# Altium integrated library sensie_v_0_0.IntLib: 42 symbols
Pins are listed as number, name and electrical type; pins without a type are passive.

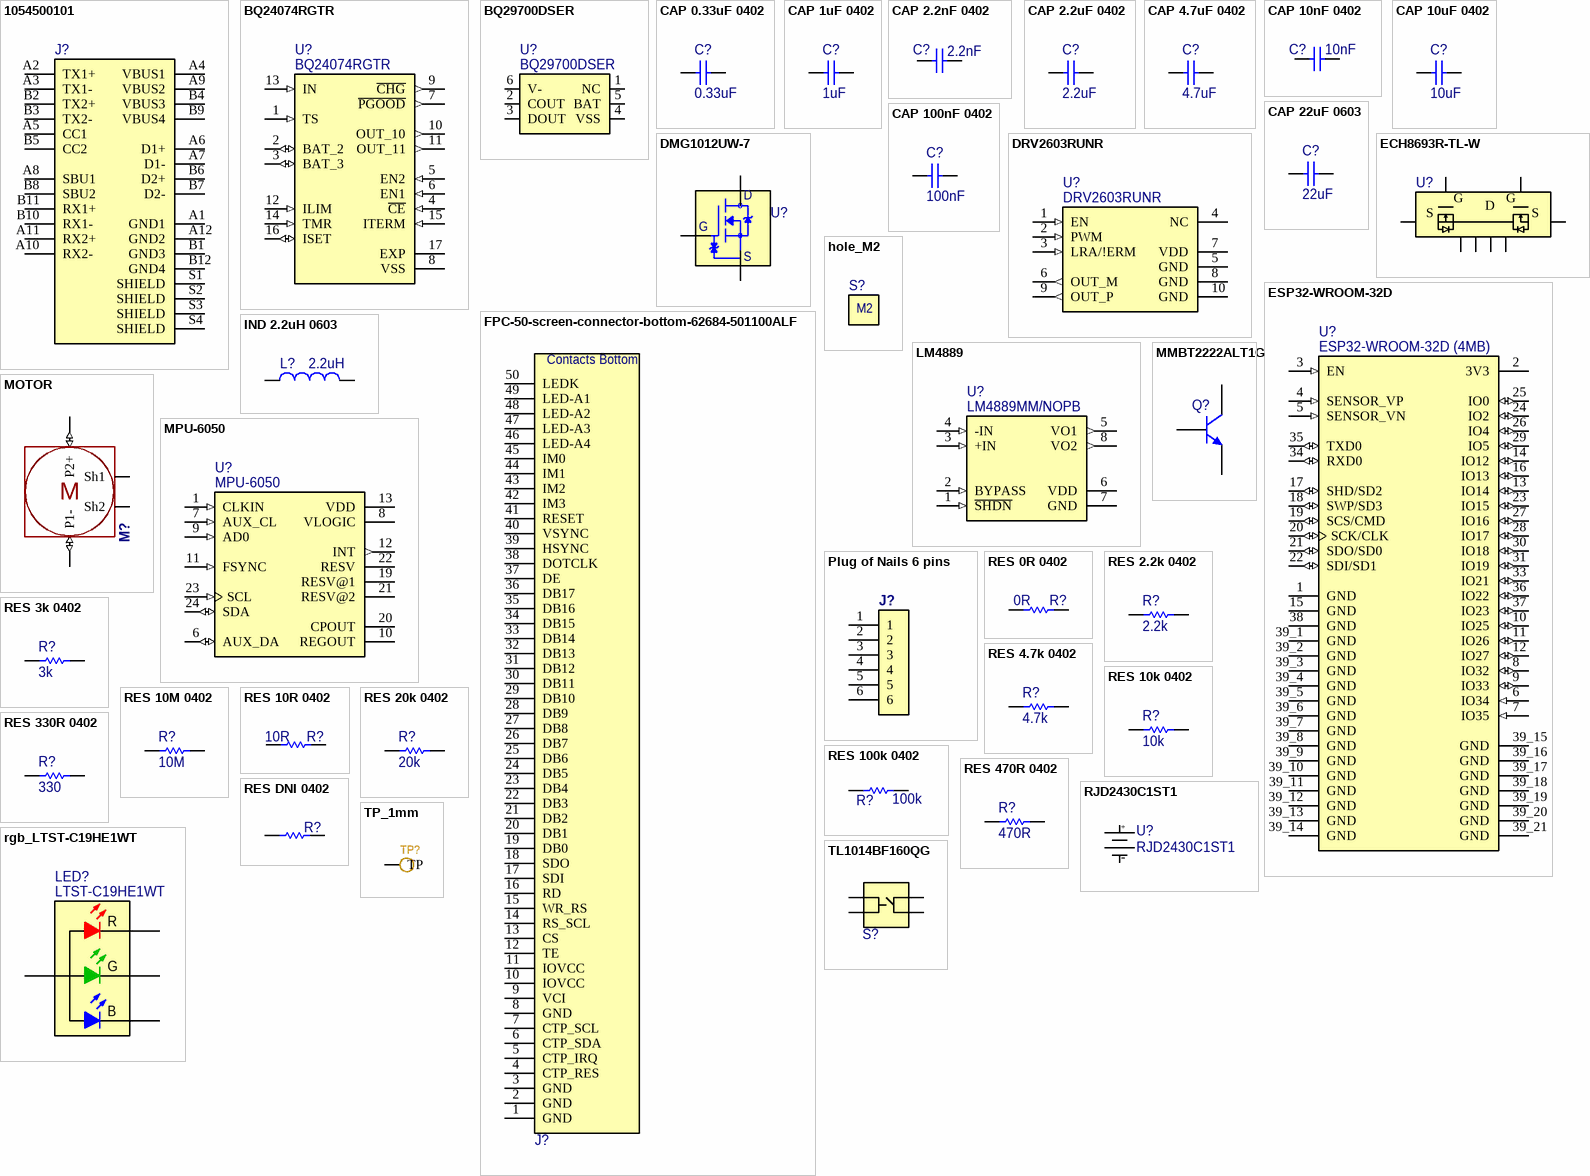
[diagram p0: symbols 1054500101 to TP_1mm]

## 1054500101
designator J?  (value not drawn)
USB-C CONN RCP USB3.1 TYPEC 24P SMD RA; Manufacturer: Molex; zz Current Rating Per Pin: 0.25A, 1A, 5A; Supplier Part Number: WM12856CT-ND; Link: https://www.digikey.com/en/products/detail/molex/1054500101/5843890; Manufacturer Part Number: 1054500101; Supplier: Digikey; Price 1000+ Units USD: 2.19; Price 1 Unit USD: 1.10
footprint USB-C-1054500101 (USB-C CONN RCP USB3.1 TYPEC 24P SMD RA)
pins: A1 GND1, A2 TX1+, A3 TX1-, A4 VBUS1, A5 CC1, A6 D1+, A7 D1-, A8 SBU1, A9 VBUS2, A10 RX2-, A11 RX2+, A12 GND2, B1 GND3, B2 TX2+, B3 TX2-, B4 VBUS3, B5 CC2, B6 D2+, B7 D2-, B8 SBU2, B9 VBUS4, B10 RX1-, B11 RX1+, B12 GND4, S1 SHIELD, S2 SHIELD, S3 SHIELD, S4 SHIELD

## BQ24074RGTR
designator U?
BATT LI-ION CHARGE MGMT 16-QFN; Manufacturer: Texas Instruments; ComponentLink1Description: Manufacturer URL; ComponentLink2Description: Datasheet; Link: https://www.digikey.com/product-detail/en/texas-instruments/BQ24074RGTR/296-38873-1-ND/5142985; Supplier Part Number: 296-38873-1-ND; Supplier: Digikey; Price 1000+ Units USD: 1.01; Price 1 Unit USD: 2.21; Manufacturer Part Number: BQ24074RGTR
footprint BATT_CHARG_BQ24074RGTR (IC LI-ION CHARGE MGMT 16-QFN)
pins: 1 TS (in), 2 BAT_2 (io), 3 BAT_3 (io), 4 ~{CE} (in), 5 EN2 (in), 6 EN1 (in), 7 ~{PGOOD} (out), 8 VSS (power), 9 ~{CHG} (out), 10 OUT_10 (out), 11 OUT_11 (out), 12 ILIM (in), 13 IN (in), 14 TMR (in), 15 ITERM (in), 16 ISET (io), 17 EXP (power)

## BQ29700DSER
designator U?
BATT LITHIUM BATT PROTECT 6-SON; Manufacturer: Texas Instruments; ComponentLink1Description: Manufacturer URL; ComponentLink2Description: Datasheet; Link: https://www.digikey.com/product-detail/en/texas-instruments/BQ29700DSER/296-43985-1-ND/5973209; Supplier Part Number: 296-43985-1-ND; Supplier: Digikey; Price 1000+ Units USD: 0.21; Price 1 Unit USD: 0.56; Manufacturer Part Number: BQ29700DSER
footprint BATT_PROTEC_BQ29700DSER (IC LITHIUM BATT PROTECT 6-SON)
pins: 1 NC, 2 COUT, 3 DOUT, 4 VSS, 5 BAT, 6 V-

## CAP 0.33uF 0402
designator C?, comment value 0.33uF  (hidden comment: Multilayer Ceramic Capacitor)
CAP CER 0.33UF 10V X6S 0402; Manufacturer Part Number: GRM155R61A334KE15D; Manufacturer: Murata Electronics; Supplier Part Number: 490-3263-1-ND; Voltage Rating: 10V; Package: 0402; Link: https://www.digikey.com/en/products/detail/murata-electronics/GRM155R61A334KE15D/702527; Supplier: Digikey
footprint C0402
pins: 1, 2
1 alternate drawing of the same symbol

## CAP 1uF 0402
designator C?, comment value 1uF  (hidden comment: Multilayer Ceramic Capacitor)
CAP CER 1UF 10V X6S 0402; Manufacturer Part Number: GRM155C81A105KA12D; Manufacturer: Murata Electronics; Supplier Part Number: 490-12699-1-ND; Voltage Rating: 10V; Package: 0402; Link: https://www.digikey.com/product-detail/en/murata-electronics/GRM155C81A105KA12D/490-12699-1-ND/5797668; Supplier: Digikey
footprint C0402
pins: 1, 2
1 alternate drawing of the same symbol

## CAP 2.2nF 0402
designator C?, comment value 2.2nF  (hidden comment: Multilayer Ceramic Capacitor)
CAP CER 2.2nF 16V X7R 0402; Manufacturer Part Number: GCM155R72A222KA37D; Manufacturer: Murata Electronics; Supplier Part Number: 490-4911-1-ND; Voltage Rating: 16V; Package: 0402; Link: https://www.digikey.com/en/products/detail/murata-electronics/GCM155R72A222KA37D/1765159; Supplier: Digikey
footprint C0402
pins: 1, 2
1 alternate drawing of the same symbol

## CAP 2.2uF 0402
designator C?, comment value 2.2uF  (hidden comment: Multilayer Ceramic Capacitor)
CAP CER 2.2UF 6.3V X5R 0402; Manufacturer Part Number: GRM155R60J225ME15D; Manufacturer: Murata Electronics; Supplier Part Number: 490-4519-1-ND; Voltage Rating: 6.3V; Package: 0402; Link: https://www.digikey.com/product-detail/en/murata-electronics/GRM155R60J225ME15D/490-4519-1-ND/1033278; Supplier: Digikey
footprint C0402
pins: 1, 2
1 alternate drawing of the same symbol

## CAP 4.7uF 0402
designator C?, comment value 4.7uF  (hidden comment: Multilayer Ceramic Capacitor)
CAP CER 4.7UF 6.3V X5R 0402; Manufacturer Part Number: GRM155R60J475ME47D; Manufacturer: Murata Electronics; Supplier Part Number: 490-5915-1-ND; Voltage Rating: 6.3V; Package: 0402; Link: https://www.digikey.com/product-detail/en/murata-electronics/GRM155R60J475ME47D/490-5915-1-ND/3719860; Supplier: Digikey
footprint C0402
pins: 1, 2
1 alternate drawing of the same symbol

## CAP 10nF 0402
designator C?, comment value 10nF  (hidden comment: Multilayer Ceramic Capacitor)
CAP CER 10nF 16V X7R 0402; Manufacturer Part Number: GCM155R71H103KA55D; Manufacturer: Murata Electronics; Supplier Part Number: 490-4762-1-ND; Voltage Rating: 16V; Package: 0402; Link: https://www.digikey.com/en/products/detail/murata-electronics/GCM155R71H103KA55D/1641636; Supplier: Digikey
footprint C0402
pins: 1, 2
1 alternate drawing of the same symbol

## CAP 10uF 0402
designator C?, comment value 10uF  (hidden comment: Multilayer Ceramic Capacitor)
CAP CER 10UF 4V X5R 0402; Manufacturer Part Number: GRM155R60G106ME44D; Manufacturer: Murata Electronics; Supplier Part Number: 490-10693-1-ND; Voltage Rating: 4V; Package: 0402; Link: https://www.digikey.com/product-detail/en/murata-electronics/GRM155R60G106ME44D/490-10693-1-ND/5251412; Supplier: Digikey
footprint C0402
pins: 1, 2
1 alternate drawing of the same symbol

## CAP 22uF 0603
designator C?, comment value 22uF  (hidden comment: Multilayer Ceramic Capacitor)
CAP CER 22UF 6.3V X5R 0603; Manufacturer Part Number: GRM188R60J226MEA0D; Manufacturer: Murata Electronics; Supplier Part Number: 490-7611-1-ND; Voltage Rating: 6.3V; Package: 0603; Link: https://www.digikey.com/product-detail/en/murata-electronics/GRM188R60J226MEA0D/490-7611-1-ND/4280544; Supplier: Digikey
footprint C0603 (non polarized)
pins: 1, 2
1 alternate drawing of the same symbol

## CAP 100nF 0402
designator C?, comment value 100nF  (hidden comment: Multilayer Ceramic Capacitor)
CAP CER 0.1UF 16V X7R 0402; Manufacturer Part Number: GRM155R71C104KA88J; Manufacturer: Murata Electronics; Supplier Part Number: 490-6328-1-ND; Voltage Rating: 16V; Package: 0402; Link: https://www.digikey.com/product-detail/en/murata-electronics/GRM155R71C104KA88J/490-6328-1-ND/3845525; Supplier: Digikey
footprint C0402
pins: 1, 2
1 alternate drawing of the same symbol

## DMG1012UW-7
designator U?  (value not drawn)
MOSFET Logi level N-CH 20V 1A SOT323; Manufacturer: Diodes Incorporated; ComponentLink1Description: Manufacturer URL; ComponentLink2Description: Datasheet; Link: https://www.digikey.com/en/products/detail/diodes-incorporated/DMG1012UW-7/2183239; Supplier Part Number: DMG1012UW-7DICT-ND; Supplier: Digikey; Price 1000+ Units USD: 0.05; Price 1 Unit USD: 0.33; Manufacturer Part Number: DMG1012UW-7
footprint MOSFET-DMG1012UW-SOT323 (MOSFET N-CH 20V 1A SOT323)
pins: 1 D, 2 G, 3 S

## DRV2603RUNR
designator U?
MOTOR DRIVER 2.5V-5.2V 10QFN; Manufacturer: Texas Instruments; ComponentLink1Description: Manufacturer URL; ComponentLink2Description: Datasheet; Link: https://www.digikey.com/product-detail/en/texas-instruments/DRV2603RUNR/296-30613-1-ND/3487222; Supplier Part Number: 296-30613-1-ND; Supplier: Digikey; Price 1000+ Units USD: 0.55; Price 1 Unit USD: 1.31; Manufacturer Part Number: DRV2603RUNR
footprint MOT_DRV_DRV2603RUNR (IC MOTOR DRIVER 2.5V-5.2V 10QFN)
pins: 1 EN (in), 2 PWM (in), 3 LRA/!ERM (in), 4 NC (power), 5 GND (power), 6 OUT_M (out), 7 VDD (power), 8 GND (power), 9 OUT_P (out), 10 GND (power)

## ECH8693R-TL-W
designator U?  (value not drawn)
MOSFET 2N-CH 24V 14A SOT-28; Manufacturer: ON Semiconductor; ComponentLink1Description: Manufacturer URL; ComponentLink2Description: Datasheet; Link: https://www.digikey.com/product-detail/en/on-semiconductor/ECH8693R-TL-W/ECH8693R-TL-WOSCT-ND/5969317; Supplier Part Number: ECH8693R-TL-WOSCT-ND; Supplier: Digikey; Price 1000+ Units USD: 0.53; Price 1 Unit USD: 0.20; Manufacturer Part Number: ECH8693R-TL-W
footprint MOSFET_2CHAN_ECH8693R-TL-W (MOSFET 2N-CH 24V 14A SOT-28)
pins: 1 S1, 2 G1, 3 S2, 4 G2, 5 D, 6 D, 7 D, 8 D
text: G; S

## ESP32-WROOM-32D
designator U?  Manufacturer Part Number: ESP32-WROOM-32D (4MB)  (hidden comment: ESP32-WROOM-32D)
ESP32-WROOM-32D Wifi/Bluetooth Module; Manufacturer: Espressif Systems; ComponentLink1Description: Manufacturer URL; ComponentLink2Description: Datasheet; Link: https://www.digikey.com/en/products/detail/espressif-systems/ESP32-WROOM-32D-4MB/9381716; Supplier Part Number: 1965-ESP32-WROOM-32D(4MB)CT-ND; Supplier: Digikey; Price 1000+ Units USD: 3.8; Price 1 Unit USD: 2.4
footprint ESP32-WROOM-32D (4MB) (ESP32-WROOM-32D Module)
pins: 1 GND (power), 2 3V3 (power), 3 EN (in), 4 SENSOR_VP (in), 5 SENSOR_VN (in), 6 IO34 (in), 7 IO35 (in), 8 IO32 (io), 9 IO33 (io), 10 IO25 (io), 11 IO26 (io), 12 IO27 (io), 13 IO14 (io), 14 IO12 (io), 15 GND (power), 16 IO13 (io), 17 SHD/SD2 (io), 18 SWP/SD3 (io), 19 SCS/CMD (io), 20 SCK/CLK (io), 21 SDO/SD0 (io), 22 SDI/SD1 (io), 23 IO15 (io), 24 IO2 (io), 25 IO0 (io), 26 IO4 (io), 27 IO16 (io), 28 IO17 (io), 29 IO5 (io), 30 IO18 (io), 31 IO19 (io), 33 IO21 (io), 34 RXD0 (io), 35 TXD0 (io), 36 IO22 (io), 37 IO23 (io), 38 GND (power), 39_1 GND (power), 39_2 GND (power), 39_3 GND (power), 39_4 GND (power), 39_5 GND (power), 39_6 GND (power), 39_7 GND (power), 39_8 GND (power), 39_9 GND (power), 39_10 GND (power), 39_11 GND (power), 39_12 GND (power), 39_13 GND (power), 39_14 GND (power), 39_15 GND (power), 39_16 GND (power), 39_17 GND (power), 39_18 GND (power), 39_19 GND (power), 39_20 GND (power), 39_21 GND (power)

## FPC-50-screen-connector-bottom-62684-501100ALF
designator J?  (value not drawn)
FPC CONN BOTTOM 50POS 0.50MM R/A; Manufacturer: Amphenol ICC (FCI); zz Current Rating Per Pin: 0.5A; Supplier Part Number: 609-1197-1-ND; Link: https://www.digikey.com/en/products/detail/amphenol-icc-fci/62684-501100ALF/1001511; Manufacturer Part Number: 62684-501100ALF; Supplier: Digikey; Price 1000+ Units USD: 0.48; Price 1 Unit USD: 0.88
footprint FPC-50-62684-501100ALF (CONN FPC BOTTOM 50POS 0.50MM R/A)
pins: 1 GND, 2 GND, 3 GND, 4 CTP_RES, 5 CTP_IRQ, 6 CTP_SDA, 7 CTP_SCL, 8 GND, 9 VCI, 10 IOVCC, 11 IOVCC, 12 TE, 13 CS, 14 RS_SCL, 15 WR_RS, 16 RD, 17 SDI, 18 SDO, 19 DB0, 20 DB1, 21 DB2, 22 DB3, 23 DB4, 24 DB5, 25 DB6, 26 DB7, 27 DB8, 28 DB9, 29 DB10, 30 DB11, 31 DB12, 32 DB13, 33 DB14, 34 DB15, 35 DB16, 36 DB17, 37 DE, 38 DOTCLK, 39 HSYNC, 40 VSYNC, 41 RESET, 42 IM3, 43 IM2, 44 IM1, 45 IM0, 46 LED-A4, 47 LED-A3, 48 LED-A2 , 49 LED-A1 , 50 LEDK
text: Contacts Bottom

## hole_M2
designator S?  (value not drawn)
Mounting hole  M2 size, no solder stop, so no screw
footprint M2_no_screw (Screw M2)
1 alternate drawing of the same symbol
text: M2

## IND 2.2uH 0603
designator L?  value 2.2uH  (hidden comment: IND 2.2uH 0603)
2.2UH20% 1.05A(MAX) / 1.15A(TYP.; Manufacturer: Murata Electronics; Manufacturer Part Number: LQM18PN2R2MGHD; Tolerance: 20%; Supplier Part Number: 490-14478-6-ND; Package: 0603; Link: https://www.digikey.co.uk/product-detail/en/murata-electronics/LQM18PN2R2MGHD/490-14478-6-ND/6607082; Supplier: Digikey
footprint L0603
pins: 1, 2
1 alternate drawing of the same symbol

## LM4889
designator U?  Manufacturer Part Number: LM4889MM/NOPB  (hidden comment: LM4889)
IC AMP CLASS AB MONO 1W 8VSSOP; Manufacturer: Texas Instruments; ComponentLink1Description: Manufacturer URL; ComponentLink2Description: Datasheet; Link: https://www.digikey.com/en/products/detail/texas-instruments/LM4889MM-NOPB/947616; Supplier Part Number: LM4889MM/NOPBCT-ND; Supplier: Digikey; Price 1000+ Units USD: 0.71; Price 1 Unit USD: 1.31
footprint Amp_LM4889MM (IC AMP CLASS AB MONO 1W 8VSSOP)
pins: 1 ~{SHDN} (in), 2 BYPASS (in), 3 +IN (in), 4 -IN (in), 5 VO1 (out), 6 VDD (power), 7 GND (power), 8 VO2 (out)

## MMBT2222ALT1G
designator Q?  (value not drawn)
TRANS NPN 40V 0.6A SOT23 / General Purpose Transistor, NPN Silicon, 3-Pin SOT-23, Pb-Free, Tape and Reel; Manufacturer: ON Semiconductor; ComponentLink3URL: http://www.onsemi.cn/pub_link/Collateral/318-08.PDF; ComponentLink1URL: http://www.onsemi.com/; ComponentLink3Description: Package Specification; ComponentLink2Description: Datasheet; ComponentLink2URL: http://www.onsemi.cn/pub_link/Collateral/MMBT2222LT1-D.PDF; ComponentLink1Description: Manufacturer URL; Supplier: Digikey; Price 1000+ Units USD: 0.02; Supplier Part Number: MMBT2222ALT1GOSCT-ND; Price 1 Unit USD: 0.15; Manufacturer Part Number: MMBT2222ALT1G; Link: https://www.digikey.co.uk/product-detail/en/on-semiconductor/MMBT2222ALT1G/MMBT2222ALT1GOSCT-ND/1139806
footprint ONSC-SOT-23-3-318-08_V (SOT23, 3-Leads, Body 2.92x1.3mm, Pitch 0.95mm)
pins: 1 B, 2 E, 3 C

## MOTOR
designator M?  (value not drawn)
VIBRATION MOTOR CYL 3V SMD; Manufacturer: Jinlong Machinery & Electronics, Inc.; Manufacturer Part Number: Z4FC1B1301781; Supplier: Digikey; Link: https://www.digikey.com/product-detail/en/jinlong-machinery-electronics-inc/Z4FC1B1301781/1670-1011-1-ND/6009936; Supplier Part Number: 1670-1011-1-ND; Price 1 Unit USD: 3.49; Price 1000+ Units USD: 2.08
footprint MOTOR
pins: 1- P1- (io), 2+ P2+ (io), 3 Sh1, 4 Sh2
text: M

## MPU-6050
designator U?
IMU ACCEL/GYRO 3-AXIS I2C 24QFN; Manufacturer: TDK InvenSense; ComponentLink1Description: Manufacturer URL; ComponentLink2Description: Datasheet; Link: https://www.digikey.com/en/products/detail/tdk-invensense/MPU-6050/4038009; Supplier Part Number: 1428-1007-1-ND; Supplier: Digikey; Price 1000+ Units USD: 3.70; Price 1 Unit USD: 7.55; Manufacturer Part Number: MPU-6050
footprint MPU6050-ACCELERO-GYRO (IMU ACCEL/GYRO 3-AXIS I2C 24QFN)
pins: 1 CLKIN (in), 6 AUX_DA (io), 7 AUX_CL (in), 8 VLOGIC (power), 9 AD0 (in), 10 REGOUT, 11 FSYNC (in), 12 INT (out), 13 VDD (power), 19 RESV@1, 20 CPOUT, 21 RESV@2, 22 RESV, 23 SCL (in), 24 SDA (io)

## Plug of Nails 6 pins
designator J?  (value not drawn)
CBL PLUG-OF-NAILS 6-PIN with NO ATTACHMENT holes (contrary to the digikey link); Manufacturer: Tag-Connect LLC; Manufacturer Part Number: TC2030-CTX; Link: https://www.digikey.co.uk/product-detail/en/tag-connect-llc/TC2030-CTX/TC2030-CTX-ND/5023324; Supplier Part Number: TC2030-CTX-ND; Supplier: Digikey; Price 1000+ Units USD: 0; Price 1 Unit USD: 0
footprint PLUG-OF-NAILS-6-PIN
pins: 1, 2, 3, 4, 5, 6

## RES 0R 0402
designator R?, comment value 0R  (hidden comment: Thick Film)
RES SMD 0 OHM JUMPER 1/16W 0402; Manufacturer: Yageo; Manufacturer Part Number: RC0402JR-070RL; Tolerance: 1%; Supplier Part Number: 311-0.0JRCT-ND; Package: 0402; Power: 1/16W; Link: https://www.digikey.com/product-detail/en/yageo/RC0402JR-070RL/311-0-0JRCT-ND/729353; Supplier: Digikey
footprint R0402
pins: 1, 2
1 alternate drawing of the same symbol

## RES 2.2k 0402
designator R?, comment value 2.2k  (hidden comment: Thick Film)
RES SMD 2.2K OHM 1% 1/16W 0402; Manufacturer: Yageo; Manufacturer Part Number: RC0402FR-072K2L; Supplier Part Number: 311-2.20KLRCT-ND; Tolerance: 1%; Package: 0402; Power: 1/16W; Link: https://www.digikey.co.uk/product-detail/en/yageo/RC0402FR-072K2L/311-2-20KLRCT-ND/729500; Supplier: Digikey
footprint R0402
pins: 1, 2
1 alternate drawing of the same symbol

## RES 3k 0402
designator R?, comment value 3k  (hidden comment: Thick Film)
RES SMD 10K OHM 1% 1/16W 0402; Manufacturer: Yageo; Manufacturer Part Number: RC0402FR-073KL; Supplier Part Number: 311-3KLRCT-ND; Tolerance: 1%; Package: 0402; Power: 1/16W; Link: https://www.digikey.co.uk/product-detail/en/yageo/RC0402FR-073KL/311-3KLRCT-ND/2827904; Supplier: Digikey
footprint R0402
pins: 1, 2
1 alternate drawing of the same symbol

## RES 4.7k 0402
designator R?, comment value 4.7k  (hidden comment: Thick Film)
RES SMD 4.7K OHM 1% 1/16W 0402; Manufacturer: Yageo; Manufacturer Part Number: RT0402FRE074K7L; Supplier Part Number: YAG3347CT-ND; Tolerance: 1%; Power: 1/16W; Link: https://www.digikey.co.uk/product-detail/en/yageo/RT0402FRE074K7L/YAG3347CT-ND/5418052; Supplier: Digikey
footprint R0402
pins: 1, 2
1 alternate drawing of the same symbol

## RES 10k 0402
designator R?, comment value 10k  (hidden comment: Thick Film)
RES SMD 10K OHM 1% 1/16W 0402; Manufacturer: Yageo; Manufacturer Part Number: RC0402FR-0710KL; Supplier Part Number: 311-10.0KLRCT-ND; Tolerance: 1%; Package: 0402; Power: 1/16W; Link: https://www.digikey.com/product-detail/en/yageo/RC0402FR-0710KL/311-10-0KLRCT-ND/729470; Supplier: Digikey
footprint R0402
pins: 1, 2
1 alternate drawing of the same symbol

## RES 10M 0402
designator R?, comment value 10M  (hidden comment: Thick Film)
RES SMD 10 MOHM 1% 1/16W 0402; Manufacturer: Yageo; Manufacturer Part Number: RC0402FR-0710ML; Supplier Part Number: 311-10.0MLRCT-ND; Tolerance: 1%; Package: 0402; Power: 1/16W; Link: https://www.digikey.co.uk/product-detail/en/yageo/RC0402FR-0710ML/311-10-0MLRCT-ND/2827890; Supplier: Digikey
footprint R0402
pins: 1, 2
1 alternate drawing of the same symbol

## RES 10R 0402
designator R?, comment value 10R  (hidden comment: Thick Film)
RES SMD 10 OHM 1% 1/16W 0402; Manufacturer: Yageo; Manufacturer Part Number: RC0402FR-0710RL; Supplier Part Number: 311-10.0LRCT-ND; Tolerance: 1%; Package: 0402; Power: 1/16W; Link: https://www.digikey.co.uk/product-detail/en/yageo/RC0402FR-0710RL/311-10-0LRCT-ND/729471; Supplier: Digikey
footprint R0402
pins: 1, 2
1 alternate drawing of the same symbol

## RES 20k 0402
designator R?, comment value 20k  (hidden comment: Thick Film)
RES SMD 20K OHM 1% 1/16W 0402; Manufacturer: Yageo; Manufacturer Part Number: RC0402FR-0720KL; Supplier Part Number: 311-20.0KLRCT-ND; Tolerance: 1%; Power: 1/16W; Link: https://www.digikey.co.uk/product-detail/en/yageo/RC0402FR-0720KL/311-20-0KLRCT-ND/729504; Supplier: Digikey
footprint R0402
pins: 1, 2
1 alternate drawing of the same symbol

## RES 100k 0402
designator R?, comment value 100k  (hidden comment: Thick Film)
RES SMD 100K OHM 1% 1/16W 0402; Manufacturer: Yageo; Manufacturer Part Number: RC0402FR-07100KL; Supplier Part Number: 311-100KLRCT-ND; Tolerance: 1%; Power: 1/16W; Link: https://www.digikey.co.uk/product-detail/en/yageo/RC0402FR-07100KL/311-100KLRCT-ND/729473; Supplier: Digikey
footprint R0402
pins: 1, 2
1 alternate drawing of the same symbol

## RES 330R 0402
designator R?, comment value 330  (hidden comment: Thick Film)
RES SMD 330 OHM 1% 1/16W 0402; Manufacturer: Yageo; Manufacturer Part Number: RC0402FR-07330RL; Supplier Part Number: 311-330LRCT-ND; Tolerance: 1%; Package: 0402; Power: 1/16W; Link: https://www.digikey.co.uk/product-detail/en/yageo/RC0402FR-07330RL/311-330LRCT-ND/729541; Supplier: Digikey
footprint R0402
pins: 1, 2
1 alternate drawing of the same symbol

## RES 470R 0402
designator R?, comment value 470R  (hidden comment: Thick Film)
RES SMD 470 OHM 1% 1/16W 0402; Manufacturer: Yageo; Manufacturer Part Number: RC0402FR-07470RL; Supplier Part Number: 311-470LRCT-ND; Tolerance: 1%; Package: 0402; Power: 1/16W; Link: https://www.digikey.com/product-detail/en/yageo/RC0402FR-07470RL/311-470LRCT-ND/729566; Supplier: Digikey
footprint R0402
pins: 1, 2
1 alternate drawing of the same symbol

## RES DNI 0402
designator R?, comment Thick Film  (value not drawn)
DNI (Do Not Install)
footprint R0402_DNI
pins: 1, 2
1 alternate drawing of the same symbol

## rgb_LTST-C19HE1WT
designator LED?  Manufacturer Part Number: LTST-C19HE1WT  (hidden comment: rgb_LTST-C19HE1WT)
LED RGB DIFFUSED CHIP SMD / LED Tri-Color Blue/Green/Red, 5 V, -20 to 80 degC, 4-Pin SMD, RoHS, Tape and Reel; Manufacturer: Lite-On Inc.; zz Package: 0606; zz Power Supply Rating: 2.1V Red, 3.35V Green, 3.35V Blue; Supplier: Digikey; Link: https://www.digikey.com/product-detail/en/lite-on-inc/LTST-C19HE1WT/160-2162-1-ND/4866310; Price 1 Unit USD: 0.56; Price 1000+ Units USD: 0.13; Supplier Part Number: 160-2162-1-ND
footprint LTST-C19HE1WT-4_V (SMD, 4-Leads, Body 1.6x1.6mm, Pitch 0.85mm)
pins: 1 R, 2 G, 3 B, 4 A

## RJD2430C1ST1
designator U?
BATTERY LITHIUM 110mAh 3.7V COIN 24.5MM; Manufacturer: Illinois Capacitor; ComponentLink1Description: Manufacturer URL; ComponentLink2Description: Datasheet; Link: https://www.digikey.com/en/products/detail/illinois-capacitor/RJD2430C1ST1/6596418?s=N4IgTCBcDaIEoCkAiYAsBmADAYQIwGUAVXEAXQF8g; Supplier Part Number: 1572-1630-ND; Supplier: Digikey; Price 1000+ Units USD: 7.00; Price 1 Unit USD: 11.00; Manufacturer Part Number: RJD2430C1ST1
footprint COIN_BAT_110_MAH_RJD2430C1ST1 (BATTERY LITHIUM 110mAh 3.7V COIN 24.5MM)
pins: 1 +, 2 -

## TL1014BF160QG
designator S?  (value not drawn)
SWITCH TACTILE SPST-NO 0.05A 12V; Manufacturer: E-Switch; ComponentLink1Description: Manufacturer URL; ComponentLink2URL: http://spec_sheets.e-switch.com/specs/P410002.pdf; ComponentLink2Description: Datasheet; Link: https://www.digikey.com/product-detail/en/e-switch/TL1014BF160QG/EG5042CT-ND/3910808; Supplier Part Number: EG5042CT-ND; Supplier: Digikey; Price 1000+ Units USD: 0.40; Price 1 Unit USD: 0.65; Manufacturer Part Number: TL1014BF160QG
footprint BUTTON_TL1014BF160QG (Push button side actuator)
pins: 1, 2, 3, 4

## TP_1mm
designator TP?  (value not drawn)
Test point 1mm diameter; ComponentLink1Description: Manufacturer URL; ComponentLink2Description: Datasheet; Supplier: Digikey
footprint TP_1mm
pins: 1 TP

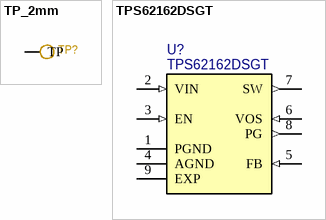
[diagram p1: symbols TP_2mm to TPS62162DSGT]

## TP_2mm
designator TP?  (value not drawn)
Test point 2mm diameter; ComponentLink1Description: Manufacturer URL; ComponentLink2Description: Datasheet; Supplier: Digikey
footprint TP_2mm
pins: 1 TP

## TPS62162DSGT
designator U?
IC REG BUCK 3.3V 1A 8WSON; Manufacturer: Texas Instruments; ComponentLink1Description: Manufacturer URL; ComponentLink2Description: Datasheet; Link: https://www.digikey.co.uk/product-detail/en/texas-instruments/TPS62162DSGT/296-29897-1-ND/2782627; Supplier Part Number: 296-29897-1-ND; Supplier: Digikey; Price 1000+ Units USD: 0.53; Price 1 Unit USD: 1.40; Manufacturer Part Number: TPS62162DSGT
footprint REG_BUCK_TPS62162DSGT (IC REG BUCK 3.3V 1A 8WSON)
pins: 1 PGND (power), 2 VIN (in), 3 EN (in), 4 AGND (power), 5 FB (in), 6 VOS (in), 7 SW (out), 8 PG (out), 9 EXP